# EAGLE library part SIT9102 (library sitime-9102)
SiTime 9102 - LVDS Oscillator Part#: SIT9102AI-243N25E200.0000 Technical Specifications: VCC: 2.5V Operating Temperature: -40°C to 125°C Package: 7x5mm Frequency stability: +-50ppm Digikey: 1473-1303-ND Mouser: 788-9102AI243N25E200
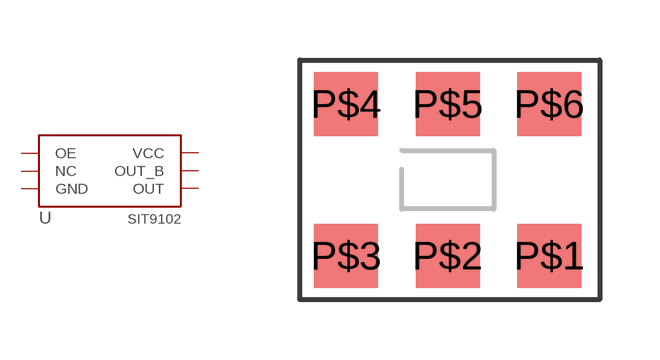
[diagram p0: symbol with the pads of 7X5; footprint 7X5]

Designator prefix U

## SIT9102"  [7X5]
P$1  OE  in
P$2  NC  nc
P$3  GND  pwr
P$4  OUT  out
P$5  OUT_B  out
P$6  VCC  pwr

## Footprint 7X5 (pad centres in mm)
SiT9120 7mm x 5mm
smd 1.6 x 1.6: P$1 2.54,-1.9; P$2 0,-1.9; P$3 -2.54,-1.9; P$4 -2.54,1.9; P$5 0,1.9; P$6 2.54,1.9